# EAGLE library part STM32F429Z (library ELL-i-DigitalIC)
STM32F427 / 429 in LQFP144 or WLCSP143 package. STM32F4-series Cortex-M4 microcontroller in a 144 or 143 lead package. Datasheet (DM00071990.pdf) <http://www.st.com/web/en/resource/technical/document/datasheet/DM00071990.pdf> .
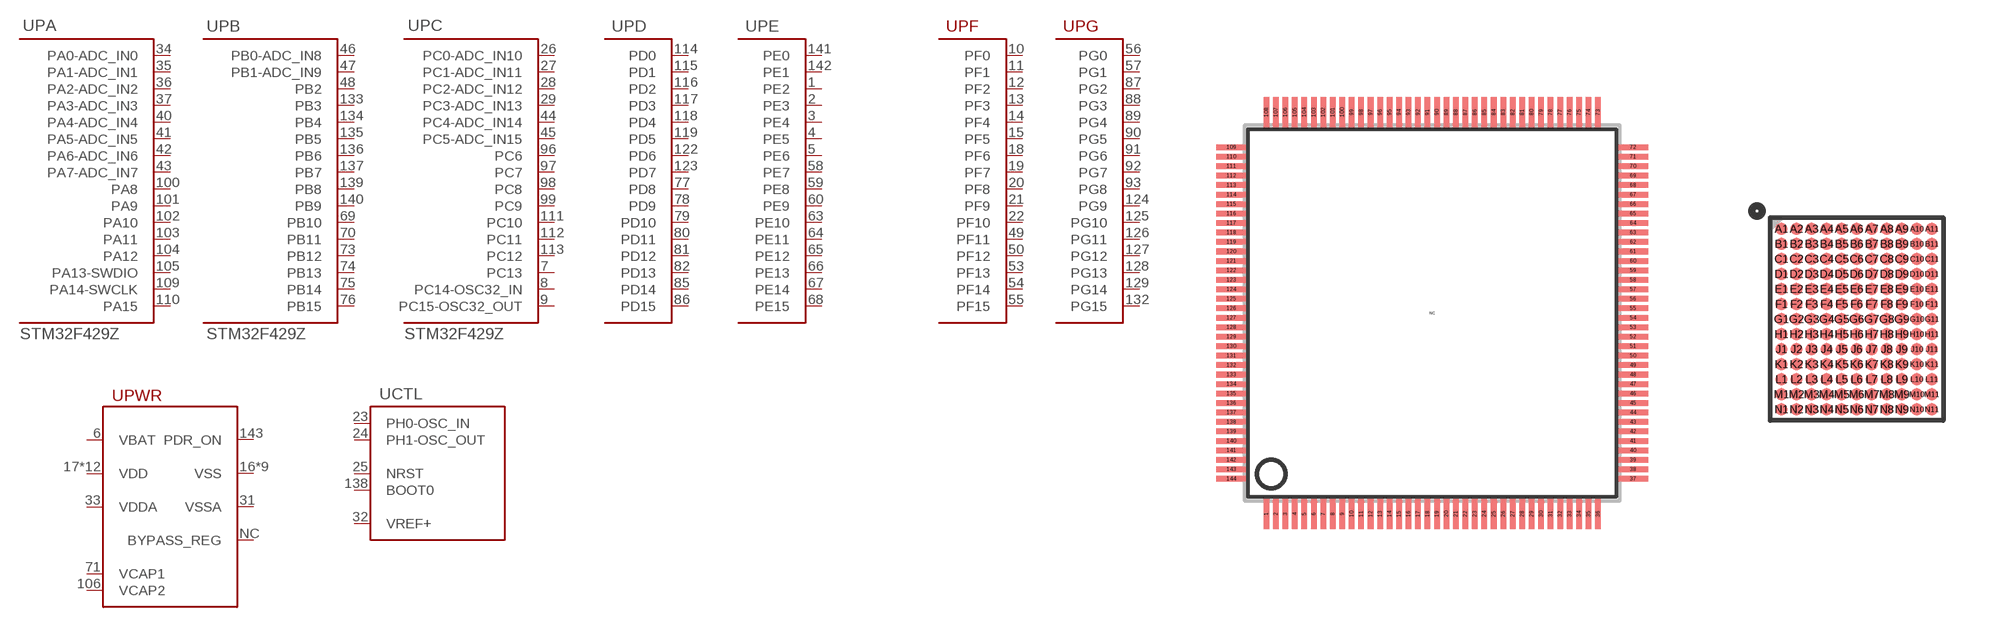
[diagram p1: symbol with the pads of LQFP144; footprints LQFP144, WLCSP143]

Designator prefix U; gates PA=STM32-PA PB=STM32-PB PC=STM32-PC PD=STM32-PD PE=STM32-PE PWR=STM32F4XX-PWR_WITH_BYPASS CTL=STM32F4XX-CTL PF=STM32-PF PG=STM32-PG

## STM32F429ZGT (FLASH: 1024K), STM32F429ZIT (FLASH: 2048K)  [LQFP144]
1  PE:PE2
2  PE:PE3
3  PE:PE4
4  PE:PE5
5  PE:PE6
6  PWR:VBAT  pwr
7  PC:PC13
8  PC:PC14-OSC32_IN
9  PC:PC15-OSC32_OUT
10  PF:PF0
11  PF:PF1
12  PF:PF2
13  PF:PF3
14  PF:PF4
15  PF:PF5
16  PWR:VSS  pwr
17  PWR:VDD  pwr
18  PF:PF6
19  PF:PF7
20  PF:PF8
21  PF:PF9
22  PF:PF10
23  CTL:PH0-OSC_IN
24  CTL:PH1-OSC_OUT
25  CTL:NRST
26  PC:PC0-ADC_IN10
27  PC:PC1-ADC_IN11
28  PC:PC2-ADC_IN12
29  PC:PC3-ADC_IN13
30  PWR:VDD  pwr
31  PWR:VSSA  pwr
32  CTL:VREF+
33  PWR:VDDA  pwr
34  PA:PA0-ADC_IN0
35  PA:PA1-ADC_IN1
36  PA:PA2-ADC_IN2
37  PA:PA3-ADC_IN3
38  PWR:VSS  pwr
39  PWR:VDD  pwr
40  PA:PA4-ADC_IN4
41  PA:PA5-ADC_IN5
42  PA:PA6-ADC_IN6
43  PA:PA7-ADC_IN7
44  PC:PC4-ADC_IN14
45  PC:PC5-ADC_IN15
46  PB:PB0-ADC_IN8
47  PB:PB1-ADC_IN9
48  PB:PB2
49  PF:PF11
50  PF:PF12
51  PWR:VSS  pwr
52  PWR:VDD  pwr
53  PF:PF13
54  PF:PF14
55  PF:PF15
56  PG:PG0
57  PG:PG1
58  PE:PE7
59  PE:PE8
60  PE:PE9
61  PWR:VSS  pwr
62  PWR:VDD  pwr
63  PE:PE10
64  PE:PE11
65  PE:PE12
66  PE:PE13
67  PE:PE14
68  PE:PE15
69  PB:PB10
70  PB:PB11
71  PWR:VCAP1
72  PWR:VDD  pwr
73  PB:PB12
74  PB:PB13
75  PB:PB14
76  PB:PB15
77  PD:PD8
78  PD:PD9
79  PD:PD10
80  PD:PD11
81  PD:PD12
82  PD:PD13
83  PWR:VSS  pwr
84  PWR:VDD  pwr
85  PD:PD14
86  PD:PD15
87  PG:PG2
88  PG:PG3
89  PG:PG4
90  PG:PG5
91  PG:PG6
92  PG:PG7
93  PG:PG8
94  PWR:VSS  pwr
95  PWR:VDD  pwr
96  PC:PC6
97  PC:PC7
98  PC:PC8
99  PC:PC9
100  PA:PA8
101  PA:PA9
102  PA:PA10
103  PA:PA11
104  PA:PA12
105  PA:PA13-SWDIO
106  PWR:VCAP2
107  PWR:VSS  pwr
108  PWR:VDD  pwr
109  PA:PA14-SWCLK
110  PA:PA15
111  PC:PC10
112  PC:PC11
113  PC:PC12
114  PD:PD0
115  PD:PD1
116  PD:PD2
117  PD:PD3
118  PD:PD4
119  PD:PD5
120  PWR:VSS  pwr
121  PWR:VDD  pwr
122  PD:PD6
123  PD:PD7
124  PG:PG9
125  PG:PG10
126  PG:PG11
127  PG:PG12
128  PG:PG13
129  PG:PG14
130  PWR:VSS  pwr
131  PWR:VDD  pwr
132  PG:PG15
133  PB:PB3
134  PB:PB4
135  PB:PB5
136  PB:PB6
137  PB:PB7
138  CTL:BOOT0
139  PB:PB8
140  PB:PB9
141  PE:PE0
142  PE:PE1
143  PWR:PDR_ON  in
144  PWR:VDD  pwr
NC  PWR:BYPASS_REG  in

## STM32F429ZGY, STM32F429ZIY  [WLCSP143]
A1  PWR:VDD  pwr
A2  PC:PC10
A3  PD:PD2
A4  PD:PD5
A5  PD:PD7
A6  PG:PG12
A7  PG:PG15
A8  PB:PB6
A9  PB:PB8
A10  PE:PE1
A11  PWR:PDR_ON  in
B1  PA:PA14-SWCLK
B2  PC:PC11
B3  PD:PD0
B4  PD:PD3
B5  PD:PD4
B6  PG:PG11
B7  PB:PB3
B8  PB:PB7
B9  PB:PB9
B10  PE:PE0
B11  PE:PE4
C1  PWR:VDD  pwr
C2  PA:PA15
C3  PC:PC12
C4  PD:PD1
C5  PWR:VDD  pwr
C6  PG:PG10
C7  PB:PB4
C8  PB:PB5
C9  CTL:BOOT0
C10  PE:PE3
C11  PWR:VBAT  pwr
D1  PWR:VCAP2
D2  PWR:VSS  pwr
D3  PA:PA13-SWDIO
D4  PA:PA11
D5  PA:PA10
D6  PG:PG13
D7  PWR:VDD  pwr
D8  PE:PE2
D9  PE:PE5
D10  PC:PC13
D11  PC:PC14-OSC32_IN
E1  PA:PA12
E2  PA:PA9
E3  PC:PC9
E4  PC:PC8
E5  PG:PG9
E6  PWR:VDD  pwr
E7  PWR:VSS  pwr
E8  PE:PE6
E9  PF:PF1
E10  PWR:VDD  pwr
E11  PC:PC15-OSC32_OUT
F1  PA:PA8
F2  PC:PC6
F3  PC:PC7
F4  PD:PD6
F5  PWR:VSS  pwr
F6  PG:PG14
F7  PF:PF7
F8  PF:PF5
F9  PF:PF4
F10  PF:PF2
F11  PF:PF0
G1  PWR:VDD  pwr
G2  PG:PG8
G3  PG:PG3
G4  PG:PG6
G5  PG:PG4
G6  PG:PG5
G7  PWR:VDD  pwr
G8  PF:PF9
G9  PF:PF10
G10  PF:PF6
G11  PF:PF3
H1  PG:PG7
H2  PWR:VSS  pwr
H3  PWR:VSS  pwr
H4  PD:PD10
H5  PD:PD13
H6  PD:PD12
H7  PWR:VSS  pwr
H8  PC:PC0-ADC_IN10
H9  CTL:NRST
H10  CTL:PH1-OSC_OUT
H11  PF:PF8
J1  PG:PG2
J2  PD:PD14
J3  PB:PB15
J4  PE:PE10
J5  PWR:VDD  pwr
J6  PWR:VDD  pwr
J7  PWR:VDD  pwr
J8  PWR:VDD  pwr
J9  PC:PC3-ADC_IN13
J10  PC:PC2-ADC_IN12
J11  CTL:PH0-OSC_IN
K1  PD:PD15
K2  PD:PD11
K3  PB:PB14
K4  PE:PE11
K5  PG:PG1
K6  PF:PF13
K7  PB:PB1-ADC_IN9
K8  PA:PA1-ADC_IN1
K9  PA:PA0-ADC_IN0
K10  PWR:VSSA  pwr
K11  PC:PC1-ADC_IN11
L1  PWR:VDD  pwr
L2  PD:PD8
L3  PE:PE15
L4  PE:PE12
L5  PE:PE7
L6  PF:PF14
L7  PB:PB2
L8  PA:PA7-ADC_IN7
L9  PA:PA2-ADC_IN2
L10  PWR:VDDA  pwr
L11  CTL:VREF+
M1  PD:PD9
M2  PB:PB12
M3  PB:PB10
M4  PE:PE14
M5  PE:PE8
M6  PF:PF15
M7  PF:PF11
M8  PC:PC4-ADC_IN14
M9  PA:PA5-ADC_IN5
M10  PA:PA4-ADC_IN4
M11  PA:PA3-ADC_IN3
N1  PB:PB13
N2  PWR:VCAP1
N3  PB:PB11
N4  PE:PE13
N5  PE:PE9
N6  PG:PG0
N7  PF:PF12
N8  PB:PB0-ADC_IN8
N9  PC:PC5-ADC_IN15
N10  PA:PA6-ADC_IN6
N11  PWR:BYPASS_REG  in

## Footprint LQFP144 (pad centres in mm)
144 leads Low Profile Quad Flat Package (LQFP) 20x20 mm, 0.5 mm pitch, 1.5 mm height. Note that this package has a "phantom" pad in the middle of it, i.e. a pad whose size is 0.00x0.00 mm, and who is named as NC (not connected). This is needed as the STM32F42x has an extra pin (BYPASS_REG) in the WLCSP143 package, while it does not have it in the LQFP package. This avoids us from having two different devices. Wikipedia article on QFPs <https://en.wikipedia.org/wiki/LQFP>
smd 0.3 x 1.6: 1 -8.75,-10.6; 2 -8.25,-10.6; 3 -7.75,-10.6; 4 -7.25,-10.6; 5 -6.75,-10.6; 6 -6.25,-10.6; 7 -5.75,-10.6; 8 -5.25,-10.6; 9 -4.75,-10.6; 10 -4.25,-10.6; 11 -3.75,-10.6; 12 -3.25,-10.6; 13 -2.75,-10.6; 14 -2.25,-10.6; 15 -1.75,-10.6; 16 -1.25,-10.6; 17 -0.75,-10.6; 18 -0.25,-10.6; 19 0.25,-10.6; 20 0.75,-10.6; 21 1.25,-10.6; 22 1.75,-10.6; 23 2.25,-10.6; 24 2.75,-10.6; 25 3.25,-10.6; 26 3.75,-10.6; 27 4.25,-10.6; 28 4.75,-10.6; 29 5.25,-10.6; 30 5.75,-10.6; 31 6.25,-10.6; 32 6.75,-10.6; 33 7.25,-10.6; 34 7.75,-10.6; 35 8.25,-10.6; 36 8.75,-10.6; 73 8.75,10.6; 74 8.25,10.6; 75 7.75,10.6; 76 7.25,10.6; 77 6.75,10.6; 78 6.25,10.6; 79 5.75,10.6; 80 5.25,10.6; 81 4.75,10.6; 82 4.25,10.6; 83 3.75,10.6; 84 3.25,10.6; 85 2.75,10.6; 86 2.25,10.6; 87 1.75,10.6; 88 1.25,10.6; 89 0.75,10.6; 90 0.25,10.6; 91 -0.25,10.6; 92 -0.75,10.6; 93 -1.25,10.6; 94 -1.75,10.6; 95 -2.25,10.6; 96 -2.75,10.6; 97 -3.25,10.6; 98 -3.75,10.6; 99 -4.25,10.6; 100 -4.75,10.6; 101 -5.25,10.6; 102 -5.75,10.6; 103 -6.25,10.6; 104 -6.75,10.6; 105 -7.25,10.6; 106 -7.75,10.6; 107 -8.25,10.6; 108 -8.75,10.6
smd 1.6 x 0.3: 37 10.6,-8.75; 38 10.6,-8.25; 39 10.6,-7.75; 40 10.6,-7.25; 41 10.6,-6.75; 42 10.6,-6.25; 43 10.6,-5.75; 44 10.6,-5.25; 45 10.6,-4.75; 46 10.6,-4.25; 47 10.6,-3.75; 48 10.6,-3.25; 49 10.6,-2.75; 50 10.6,-2.25; 51 10.6,-1.75; 52 10.6,-1.25; 53 10.6,-0.75; 54 10.6,-0.25; 55 10.6,0.25; 56 10.6,0.75; 57 10.6,1.25; 58 10.6,1.75; 59 10.6,2.25; 60 10.6,2.75; 61 10.6,3.25; 62 10.6,3.75; 63 10.6,4.25; 64 10.6,4.75; 65 10.6,5.25; 66 10.6,5.75; 67 10.6,6.25; 68 10.6,6.75; 69 10.6,7.25; 70 10.6,7.75; 71 10.6,8.25; 72 10.6,8.75; 109 -10.6,8.75; 110 -10.6,8.25; 111 -10.6,7.75; 112 -10.6,7.25; 113 -10.6,6.75; 114 -10.6,6.25; 115 -10.6,5.75; 116 -10.6,5.25; 117 -10.6,4.75; 118 -10.6,4.25; 119 -10.6,3.75; 120 -10.6,3.25; 121 -10.6,2.75; 122 -10.6,2.25; 123 -10.6,1.75; 124 -10.6,1.25; 125 -10.6,0.75; 126 -10.6,0.25; 127 -10.6,-0.25; 128 -10.6,-0.75; 129 -10.6,-1.25; 130 -10.6,-1.75; 131 -10.6,-2.25; 132 -10.6,-2.75; 133 -10.6,-3.25; 134 -10.6,-3.75; 135 -10.6,-4.25; 136 -10.6,-4.75; 137 -10.6,-5.25; 138 -10.6,-5.75; 139 -10.6,-6.25; 140 -10.6,-6.75; 141 -10.6,-7.25; 142 -10.6,-7.75; 143 -10.6,-8.25; 144 -10.6,-8.75
smd 0 x 0: NC 0,0

## Footprint WLCSP143 (pad centres in mm)
143 balls Wafer Level Chip-Size Package (WLCSP) Wikipedia article <https://en.wikipedia.org/wiki/WLCSP> Not proven in production. Probably faulty, needs at least a review.
smd 0.32 x 0.32: A1 -2,2.4; A2 -1.6,2.4; A3 -1.2,2.4; A4 -0.8,2.4; A5 -0.4,2.4; A6 0,2.4; A7 0.4,2.4; A8 0.8,2.4; A9 1.2,2.4; A10 1.6,2.4; A11 2,2.4; B1 -2,2; B2 -1.6,2; B3 -1.2,2; B4 -0.8,2; B5 -0.4,2; B6 0,2; B7 0.4,2; B8 0.8,2; B9 1.2,2; B10 1.6,2; B11 2,2; C1 -2,1.6; C2 -1.6,1.6; C3 -1.2,1.6; C4 -0.8,1.6; C5 -0.4,1.6; C6 0,1.6; C7 0.4,1.6; C8 0.8,1.6; C9 1.2,1.6; C10 1.6,1.6; C11 2,1.6; D1 -2,1.2; D2 -1.6,1.2; D3 -1.2,1.2; D4 -0.8,1.2; D5 -0.4,1.2; D6 0,1.2; D7 0.4,1.2; D8 0.8,1.2; D9 1.2,1.2; D10 1.6,1.2; D11 2,1.2; E1 -2,0.8; E2 -1.6,0.8; E3 -1.2,0.8; E4 -0.8,0.8; E5 -0.4,0.8; E6 0,0.8; E7 0.4,0.8; E8 0.8,0.8; E9 1.2,0.8; E10 1.6,0.8; E11 2,0.8; F1 -2,0.4; F2 -1.6,0.4; F3 -1.2,0.4; F4 -0.8,0.4; F5 -0.4,0.4; F6 0,0.4; F7 0.4,0.4; F8 0.8,0.4; F9 1.2,0.4; F10 1.6,0.4; F11 2,0.4; G1 -2,0; G2 -1.6,0; G3 -1.2,0; G4 -0.8,0; G5 -0.4,0; G6 0,0; G7 0.4,0; G8 0.8,0; G9 1.2,0; G10 1.6,0; G11 2,0; H1 -2,-0.4; H2 -1.6,-0.4; H3 -1.2,-0.4; H4 -0.8,-0.4; H5 -0.4,-0.4; H6 0,-0.4; H7 0.4,-0.4; H8 0.8,-0.4; H9 1.2,-0.4; H10 1.6,-0.4; H11 2,-0.4; J1 -2,-0.8; J2 -1.6,-0.8; J3 -1.2,-0.8; J4 -0.8,-0.8; J5 -0.4,-0.8; J6 0,-0.8; J7 0.4,-0.8; J8 0.8,-0.8; J9 1.2,-0.8; J10 1.6,-0.8; J11 2,-0.8; K1 -2,-1.2; K2 -1.6,-1.2; K3 -1.2,-1.2; K4 -0.8,-1.2; K5 -0.4,-1.2; K6 0,-1.2; K7 0.4,-1.2; K8 0.8,-1.2; K9 1.2,-1.2; K10 1.6,-1.2; K11 2,-1.2; L1 -2,-1.6; L2 -1.6,-1.6; L3 -1.2,-1.6; L4 -0.8,-1.6; L5 -0.4,-1.6; L6 0,-1.6; L7 0.4,-1.6; L8 0.8,-1.6; L9 1.2,-1.6; L10 1.6,-1.6; L11 2,-1.6; M1 -2,-2; M2 -1.6,-2; M3 -1.2,-2; M4 -0.8,-2; M5 -0.4,-2; M6 0,-2; M7 0.4,-2; M8 0.8,-2; M9 1.2,-2; M10 1.6,-2; M11 2,-2; N1 -2,-2.4; N2 -1.6,-2.4; N3 -1.2,-2.4; N4 -0.8,-2.4; N5 -0.4,-2.4; N6 0,-2.4; N7 0.4,-2.4; N8 0.8,-2.4; N9 1.2,-2.4; N10 1.6,-2.4; N11 2,-2.4